# EAGLE library part NODEMCU (library nodemcu)
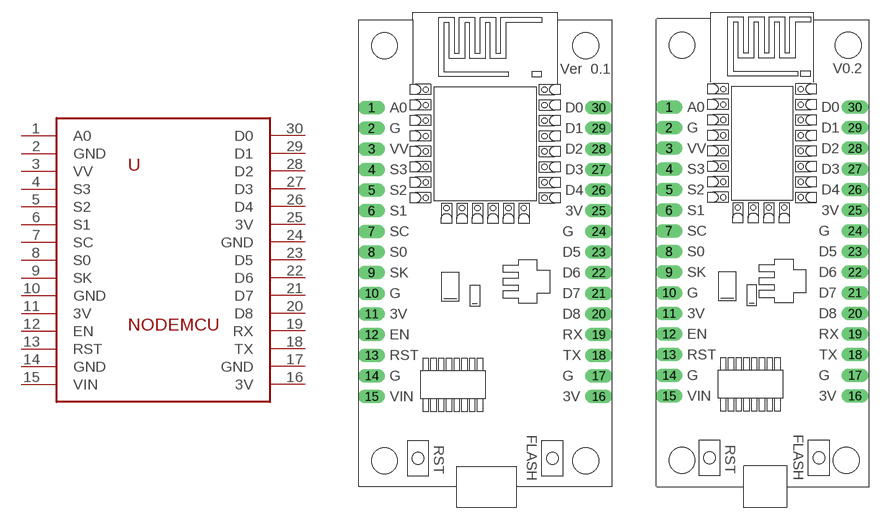
[diagram p0: symbol with the pads of NODEMCU; footprints NODEMCU, NODEMCUV2]

Designator prefix -

## NODEMCU  [NODEMCU]
1  A0
2  GND  pwr
3  VV
4  S3
5  S2
6  S1
7  SC
8  S0
9  SK
10  GND  pwr
11  3V  pwr
12  EN
13  RST
14  GND  pwr
15  VIN
16  3V  pwr
17  GND  pwr
18  TX
19  RX
20  D8
21  D7
22  D6
23  D5
24  GND  pwr
25  3V  pwr
26  D4
27  D3
28  D2
29  D1
30  D0

## NODEMCUNODEMCUV2  [NODEMCUV2]
Pads as for NODEMCU

## Footprint NODEMCU (pad centres in mm)
drill 1 pad 1.676 long: 1 -13.97,17.78; 2 -13.97,15.24; 3 -13.97,12.7; 4 -13.97,10.16; 5 -13.97,7.62; 6 -13.97,5.08; 7 -13.97,2.54; 8 -13.97,0; 9 -13.97,-2.54; 10 -13.97,-5.08; 11 -13.97,-7.62; 12 -13.97,-10.16; 13 -13.97,-12.7; 14 -13.97,-15.24; 15 -13.97,-17.78; 16 13.97,-17.78; 17 13.97,-15.24; 18 13.97,-12.7; 19 13.97,-10.16; 20 13.97,-7.62; 21 13.97,-5.08; 22 13.97,-2.54; 23 13.97,0; 24 13.97,2.54; 25 13.97,5.08; 26 13.97,7.62; 27 13.97,10.16; 28 13.97,12.7; 29 13.97,15.24; 30 13.97,17.78

## Footprint NODEMCUV2 (pad centres in mm)
drill 1 pad 1.676 long: 1 -13.97,17.78; 2 -13.97,15.24; 3 -13.97,12.7; 4 -13.97,10.16; 5 -13.97,7.62; 6 -13.97,5.08; 7 -13.97,2.54; 8 -13.97,0; 9 -13.97,-2.54; 10 -13.97,-5.08; 11 -13.97,-7.62; 12 -13.97,-10.16; 13 -13.97,-12.7; 14 -13.97,-15.24; 15 -13.97,-17.78; 16 8.89,-17.78; 17 8.89,-15.24; 18 8.89,-12.7; 19 8.89,-10.16; 20 8.89,-7.62; 21 8.89,-5.08; 22 8.89,-2.54; 23 8.89,0; 24 8.89,2.54; 25 8.89,5.08; 26 8.89,7.62; 27 8.89,10.16; 28 8.89,12.7; 29 8.89,15.24; 30 8.89,17.78